# EAGLE library part LM2678SX-5.0/NOPB (library PowerRegulator)
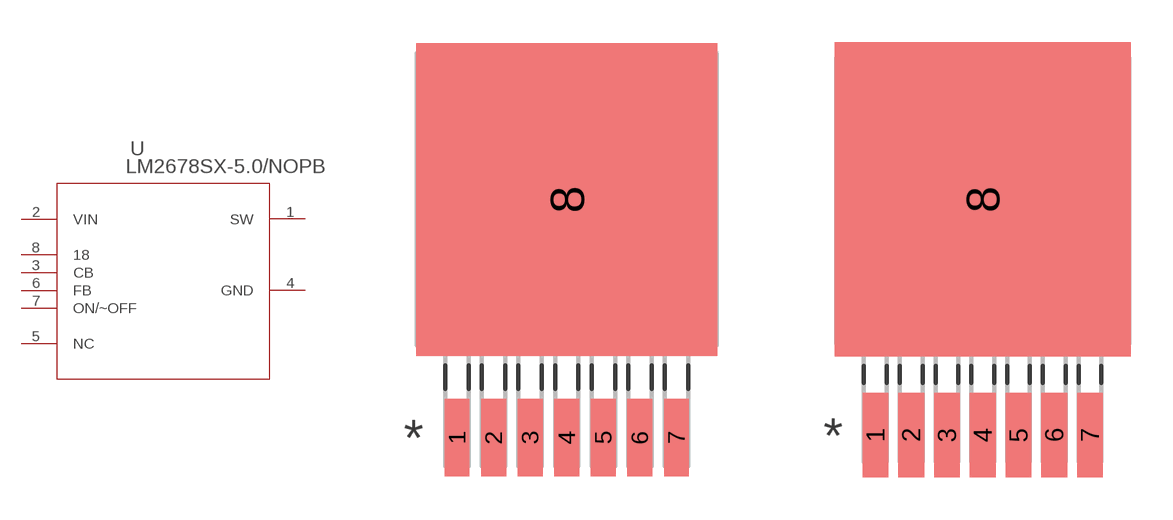
[diagram p0: symbol with the pads of TS7B; footprints TS7B, TS7B-M]

Designator prefix U

## LM2678SX-5.0/NOPB (BUILT_BY: EMA_Jessica; COPYRIGHT: Copyright (C) 2018 Accelerated Designs. All rights reserved; MANUFACTURER_PART_NUMBER: LM2678SX-5.0/NOPB; SOURCELIBRARY: TI_2019-03-25_3; VENDOR: Texas Instruments)  [TS7B]
1  SW  out
2  VIN  in
3  CB  pas
4  GND  pas
5  NC  pas
6  FB  pas
7  ON/~OFF  pas
8  18  pas

## LM2678SX-5.0/NOPBTS7B-M (BUILT_BY: EMA_Jessica; COPYRIGHT: Copyright (C) 2018 Accelerated Designs. All rights reserved; MANUFACTURER_PART_NUMBER: LM2678SX-5.0/NOPB; SOURCELIBRARY: TI_2019-03-25_3; VENDOR: Texas Instruments)  [TS7B-M]
Pads as for TS7B

## LM2678SX-5.0/NOPBTS7B-L (BUILT_BY: EMA_Jessica; COPYRIGHT: Copyright (C) 2018 Accelerated Designs. All rights reserved; MANUFACTURER_PART_NUMBER: LM2678SX-5.0/NOPB; SOURCELIBRARY: TI_2019-03-25_3; VENDOR: Texas Instruments)  [TS7B-L]
Pads as for TS7B

## Footprint TS7B (pad centres in mm)
smd 0.864 x 2.692: 1 -3.81,-8.28; 2 -2.54,-8.28; 3 -1.27,-8.28; 4 0,-8.28; 5 1.27,-8.28; 6 2.54,-8.28; 7 3.81,-8.28
smd 10.465 x 10.871: 8 0,0

## Footprint TS7B-M (pad centres in mm)
smd 0.914 x 2.997: 1 -3.81,-8.331; 2 -2.54,-8.331; 3 -1.27,-8.331; 4 0,-8.331; 5 1.27,-8.331; 6 2.54,-8.331; 7 3.81,-8.331
smd 10.516 x 11.176: 8 0,0.051

## Footprint TS7B-L (pad centres in mm)
smd 0.813 x 2.388: 1 -3.81,-8.23; 2 -2.54,-8.23; 3 -1.27,-8.23; 4 0,-8.23; 5 1.27,-8.23; 6 2.54,-8.23; 7 3.81,-8.23
smd 10.414 x 10.566: 8 0,-0.051